# EAGLE library part GICV2.5-8-* (library Phoenix_GICV-GF)
inverted Connector 7,62 mm, 8 Pole, 500V, 12A/Pole
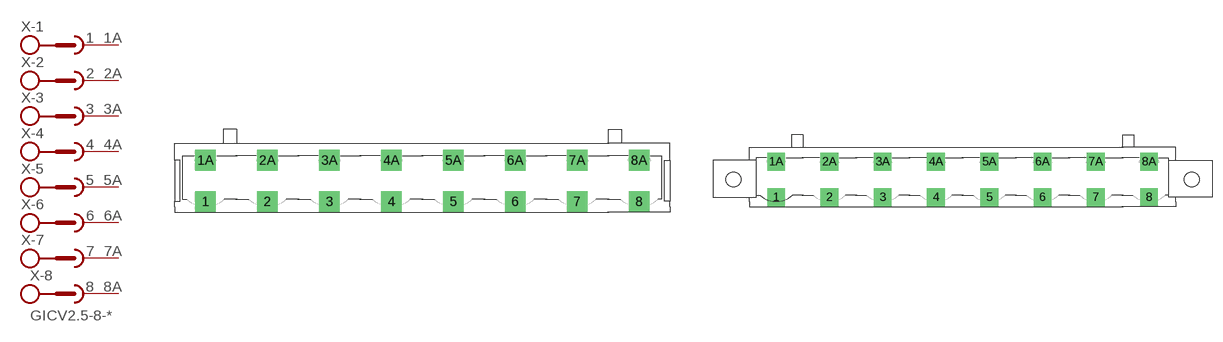
[diagram p5: symbol with the pads of GICV2.5-8-G; footprints GICV2.5-8-G, GICV2.5-8-GF]

Designator prefix X; gates -1=SKBD -2=SKBD -3=SKBD -4=SKBD -5=SKBD -6=SKBD -7=SKBD -8=SKV+VD

## GICV2.5-8-G  [GICV2.5-8-G]
1  -1:1  pas
1A  -1:1A  pas
2  -2:1  pas
2A  -2:1A  pas
3  -3:1  pas
3A  -3:1A  pas
4  -4:1  pas
4A  -4:1A  pas
5  -5:1  pas
5A  -5:1A  pas
6  -6:1  pas
6A  -6:1A  pas
7  -7:1  pas
7A  -7:1A  pas
8  -8:1  pas
8A  -8:1A  pas

## GICV2.5-8-GF  [GICV2.5-8-GF]
Pads as for GICV2.5-8-G

## Footprint GICV2.5-8-G (pad centres in mm)
inverted Connector 7,62 mm, 8 polig, ohne Befestigungsblock!
drill 1.3 pad 2.54 square: 1 0,0; 1A 0,5.08; 2 7.62,0; 2A 7.62,5.08; 3 15.24,0; 3A 15.24,5.08; 4 22.86,0; 4A 22.86,5.08; 5 30.48,0; 5A 30.48,5.08; 6 38.1,0; 6A 38.1,5.08; 7 45.72,0; 7A 45.72,5.08; 8 53.34,0; 8A 53.34,5.08

## Footprint GICV2.5-8-GF (pad centres in mm)
invertded Connector 7,62 mm, 8 polig, mit Befestigungsblock!
drill 1.3 pad 2.54 square: 1 0,0; 1A 0,5.08; 2 7.62,0; 2A 7.62,5.08; 3 15.24,0; 3A 15.24,5.08; 4 22.86,0; 4A 22.86,5.08; 5 30.48,0; 5A 30.48,5.08; 6 38.1,0; 6A 38.1,5.08; 7 45.72,0; 7A 45.72,5.08; 8 53.34,0; 8A 53.34,5.08
hole 2.1 at -6.1,2.54
hole 2.1 at 59.44,2.54